# Altium footprint library 47uF 0603  CAP.PcbLib: 1 footprints
Each footprint in its own frame and in the unit in brackets; x right, y up, seen from the top. Pads: shape width x height; smd on the part's side, far side on the other; paste and mask are expansions set on the pad; w line width, h text height; cw(c..) or ccw(c..) is an arc to the next point about the centre after c.
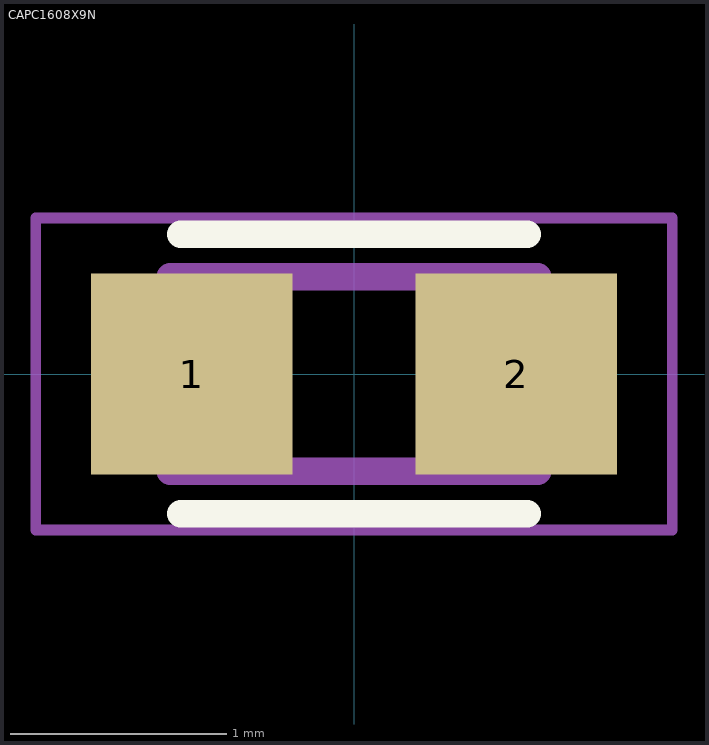
[diagram p0: the footprint, top view; thin cyan lines are the x and y axes]

## CAPC1608X9N [mm]
pads (2):
  rect 0.93x0.93 smd: 1(-0.75,0) 2(0.75,0)
Top Overlay:
  lines w0.127: -0.8,-0.645 0.8,-0.645 ; -0.8,0.645 0.8,0.645
Mechanical 1:
  lines w0.127: -0.85,-0.45 -0.85,0.45 0.85,0.45 0.85,-0.45 -0.85,-0.45
Mechanical 4:
  lines w0.05: -1.47,-0.72 1.47,-0.72 1.47,0.72 -1.47,0.72 -1.47,-0.72